# Altium integrated library CL05B103KO5NNNC.IntLib: 1 symbol
Pins are listed as number, name and electrical type; pins without a type are passive.

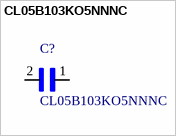
[diagram p0: symbol CL05B103KO5NNNC]

## CL05B103KO5NNNC
designator C?
/ CL05 Series 10 nF 16 V Â±10 % Tolerance X7R SMT Multilayer Ceramic Capacitor /; MF: Samsung Electro-Mechanics; Availability: Unavailable; Price: None; MP: CL05B103KO5NNNC; Package: 0402 Samsung; SnapEDA_Link: https://www.snapeda.com/parts/CL05B103KO5NNNC/Samsung%20Electro-Mechanics/view-part/?ref=snap; Value: *
footprint *CAPC1005X55N
pins: 1, 2